# EAGLE library part TRANSFLASH (library uSD_socket)
TransFlash TF Micro SD Card Socket Adapter
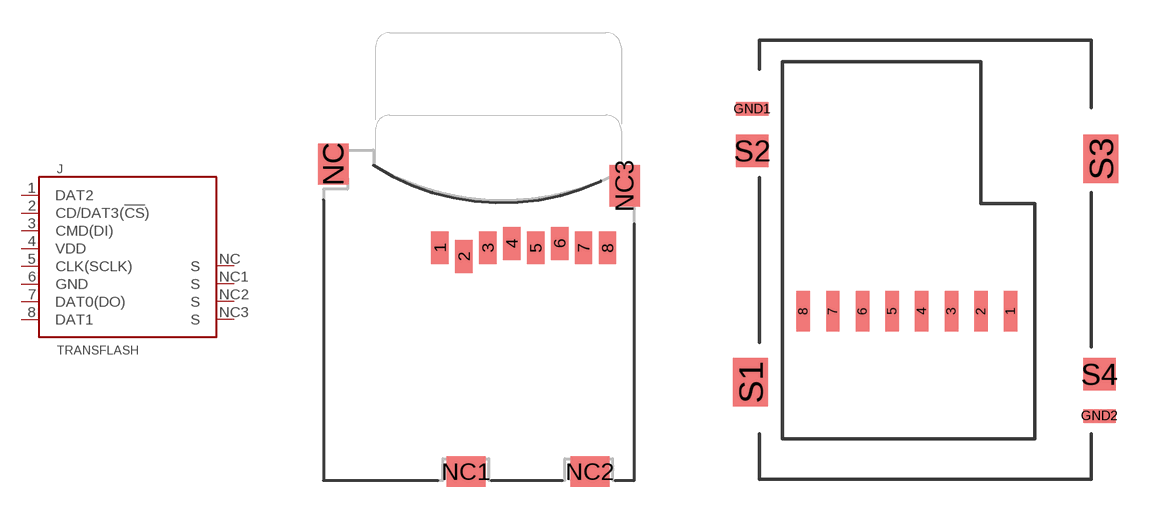
[diagram p1: symbol with the pads of MICROSD_MICROSD; footprints MICROSD_MICROSD, TRANSFLASH-LOCK-SOCK]

Designator prefix J

## TRANSFLASH-PUSH  [MICROSD_MICROSD]
1  DAT2
2  CD/DAT3(!CS!)
3  CMD(DI)
4  VDD  pwr
5  CLK(SCLK)
6  GND  pwr
7  DAT0(DO)
8  DAT1
NC  S  pas
NC1  S  pas
NC2  S  pas
NC3  S  pas

## TRANSFLASH-LOCK  [TRANSFLASH-LOCK-SOCK]
1  DAT2
2  CD/DAT3(!CS!)
3  CMD(DI)
4  VDD  pwr
5  CLK(SCLK)
6  GND  pwr
7  DAT0(DO)
8  DAT1
GND1  S  pas
GND2  S  pas
S3  S  pas
S4  S  pas

## Footprint MICROSD_MICROSD (pad centres in mm)
smd 0.8 x 1.5: 1 -1.94,2.7; 2 -0.84,2.3; 3 0.26,2.7; 4 1.36,2.9; 5 2.46,2.7; 6 3.56,2.9; 7 4.66,2.7; 8 5.76,2.7
smd 1.4 x 1.9: NC -6.85,6.55; NC3 6.55,5.55
smd 1.8 x 1.4: NC1 -0.75,-7.6; NC2 4.95,-7.6

## Footprint TRANSFLASH-LOCK-SOCK (pad centres in mm)
smd 0.5 x 1.5: 1 3.1,0.74; 2 2,0.74; 3 0.9,0.74; 4 -0.2,0.74; 5 -1.3,0.74; 6 -2.4,0.74; 7 -3.5,0.74; 8 -4.6,0.74
smd 1.2 x 0.5: GND1 -6.5,8.25; GND2 6.4,-3.15
smd 1.3 x 1.8: S1 -6.555,-1.9; S3 6.455,6.4
smd 1.2 x 1.2: S2 -6.495,6.7; S4 6.395,-1.6